# Altium schematic symbol library Schlib2.SchLib: 8 symbols
Pins are listed as number, name and electrical type; pins without a type are passive.

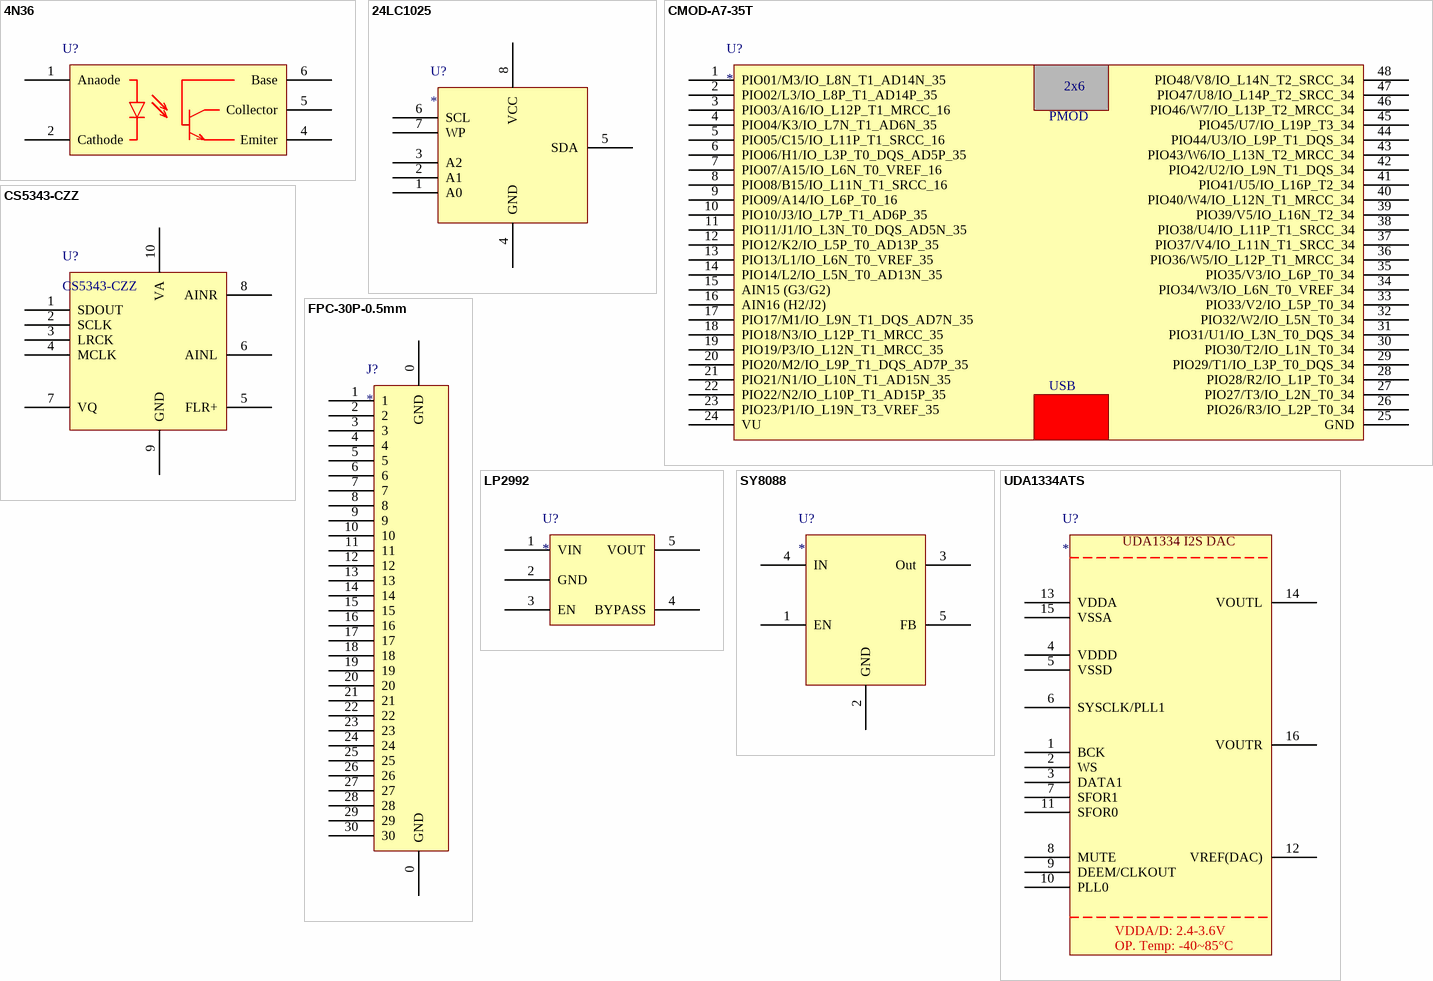
[diagram p0: symbols 4N36 to UDA1334ATS]

## 4N36
designator U?  (value not drawn)
4N36 / 6-Pin General Purpose Phototransistor Optocouplers
pins: 1 Anaode, 2 Cathode, 4 Emiter, 5 Collector, 6 Base

## 24LC1025
designator U?
24LC1025 EEPROM
footprint SOIC-8 (·â×°¿âÀ´×ÔÌÔ±¦Âô¼Ò ID£º»Æ¾§±¦Ê¯)
pins: 1 A0, 2 A1, 3 A2, 4 GND, 5 SDA, 6 SCL, 7 WP, 8 VCC

## CMOD-A7-35T
designator U?
Digilent CMOD A7 35T
pins: 1 PIO01/M3/IO_L8N_T1_AD14N_35, 2 PIO02/L3/IO_L8P_T1_AD14P_35, 3 PIO03/A16/IO_L12P_T1_MRCC_16, 4 PIO04/K3/IO_L7N_T1_AD6N_35, 5 PIO05/C15/IO_L11P_T1_SRCC_16, 6 PIO06/H1/IO_L3P_T0_DQS_AD5P_35, 7 PIO07/A15/IO_L6N_T0_VREF_16, 8 PIO08/B15/IO_L11N_T1_SRCC_16, 9 PIO09/A14/IO_L6P_T0_16, 10 PIO10/J3/IO_L7P_T1_AD6P_35, 11 PIO11/J1/IO_L3N_T0_DQS_AD5N_35, 12 PIO12/K2/IO_L5P_T0_AD13P_35, 13 PIO13/L1/IO_L6N_T0_VREF_35, 14 PIO14/L2/IO_L5N_T0_AD13N_35, 15 AIN15 (G3/G2), 16 AIN16 (H2/J2), 17 PIO17/M1/IO_L9N_T1_DQS_AD7N_35, 18 PIO18/N3/IO_L12P_T1_MRCC_35, 19 PIO19/P3/IO_L12N_T1_MRCC_35, 20 PIO20/M2/IO_L9P_T1_DQS_AD7P_35, 21 PIO21/N1/IO_L10N_T1_AD15N_35, 22 PIO22/N2/IO_L10P_T1_AD15P_35, 23 PIO23/P1/IO_L19N_T3_VREF_35, 24 VU, 25 GND, 26 PIO26/R3/IO_L2P_T0_34, 27 PIO27/T3/IO_L2N_T0_34, 28 PIO28/R2/IO_L1P_T0_34, 29 PIO29/T1/IO_L3P_T0_DQS_34, 30 PIO30/T2/IO_L1N_T0_34, 31 PIO31/U1/IO_L3N_T0_DQS_34, 32 PIO32/W2/IO_L5N_T0_34, 33 PIO33/V2/IO_L5P_T0_34, 34 PIO34/W3/IO_L6N_T0_VREF_34, 35 PIO35/V3/IO_L6P_T0_34, 36 PIO36/W5/IO_L12P_T1_MRCC_34, 37 PIO37/V4/IO_L11N_T1_SRCC_34, 38 PIO38/U4/IO_L11P_T1_SRCC_34, 39 PIO39/V5/IO_L16N_T2_34, 40 PIO40/W4/IO_L12N_T1_MRCC_34, 41 PIO41/U5/IO_L16P_T2_34, 42 PIO42/U2/IO_L9N_T1_DQS_34, 43 PIO43/W6/IO_L13N_T2_MRCC_34, 44 PIO44/U3/IO_L9P_T1_DQS_34, 45 PIO45/U7/IO_L19P_T3_34, 46 PIO46/W7/IO_L13P_T2_MRCC_34, 47 PIO47/U8/IO_L14P_T2_SRCC_34, 48 PIO48/V8/IO_L14N_T2_SRCC_34
text: 2x6; PMOD; USB

## CS5343-CZZ
designator U?
98dB 96kHz Multi-Bit Audio ADC
pins: 1 SDOUT, 2 SCLK, 3 LRCK, 4 MCLK, 5 FLR+, 6 AINL, 7 VQ, 8 AINR, 9 GND, 10 VA

## FPC-30P-0.5mm
designator J?
FPC-30P-0.5mm
footprint FPC0.5-WT-30P (³¤£º19.2mm£¬¿í£º5.2mm£¬¸ß£º2mm               »Æ¾§±¦Ê¯)
pins: 0 GND, 0 GND, 1, 2, 3, 4, 5, 6, 7, 8, 9, 10, 11, 12, 13, 14, 15, 16, 17, 18, 19, 20, 21, 22, 23, 24, 25, 26, 27, 28, 29, 30

## LP2992
designator U?
pins: 1 VIN, 2 GND, 3 EN, 4 BYPASS, 5 VOUT

## SY8088
designator U?
SY8088 High Efficiency 1.5MHz, 1A / Synchronous Step Down Regulator
pins: 1 EN, 2 GND, 3 Out, 4 IN, 5 FB

## UDA1334ATS
designator U?
UDA1334 I2S DAC Audio Codec
pins: 1 BCK, 2 WS, 3 DATA1, 4 VDDD, 5 VSSD, 6 SYSCLK/PLL1, 7 SFOR1, 8 MUTE, 9 DEEM/CLKOUT, 10 PLL0, 11 SFOR0, 12 VREF(DAC), 13 VDDA, 14 VOUTL, 15 VSSA, 16 VOUTR
text: UDA1334 I2S DAC; VDDA/D: 2.4-3.6V; OP. Temp: -40~85°C